# Altium footprint library BMP390.PcbLib: 3 footprints
Each footprint in its own frame and in the unit in brackets; x right, y up, seen from the top. Pads: shape width x height; smd on the part's side, far side on the other; paste and mask are expansions set on the pad; w line width, h text height; cw(c..) or ccw(c..) is an arc to the next point about the centre after c.
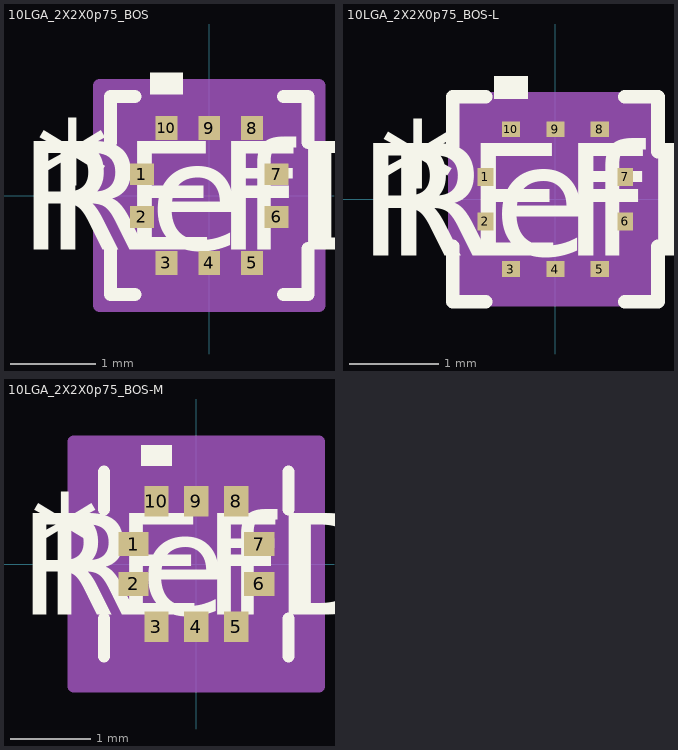
[diagram p0: the footprints below, top view; thin cyan lines are the x and y axes]

## 10LGA_2X2X0p75_BOS [mil]
pads (10):
  rect 11x10 smd paste+0 mask+0: 1(-31,9.84) 2(-31,-9.84) 6(31,-9.84) 7(31,9.84)
  rect 10x11 smd paste+0 mask+0: 3(-19.68,-31) 4(0,-31) 5(19.68,-31) 8(19.68,31) 9(0,31) 10(-19.68,31)
Top Overlay:
  region: -12.19,46.5 -27.18,46.5 -27.18,56.5 -12.19,56.5
  lines w6: -45.5,-24.36 -45.5,-45.5 -34.2,-45.5 ; -45.5,24.36 -45.5,45.5 -34.2,45.5 ; 34.2,-45.5 45.5,-45.5 45.5,-24.36 ; 34.2,45.5 45.5,45.5 45.5,24.36
  text "*" at -80,-15.16 h50
  text "RefDes" at -75,-25 h50
  text "REFDES" at -87.5,-25 h50
Mechanical 13:
  lines w1: -40.5,-9.5 9.5,40.5 ; -40.5,-40.5 40.5,-40.5 40.5,40.5 -40.5,40.5 -40.5,-40.5 ; -40.5,-14.84 -40.5,-4.84 -36.5,-4.84 -36.5,-14.84 -40.5,-14.84 ; -40.5,4.84 -40.5,14.84 -36.5,14.84 -36.5,4.84 -40.5,4.84 ; -24.68,-40.5 -14.69,-40.5 -14.69,-36.5 -24.68,-36.5 -24.68,-40.5 ; -24.68,36.5 -14.69,36.5 -14.69,40.5 -24.68,40.5 -24.68,36.5 ; -5,-40.5 5,-40.5 5,-36.5 -5,-36.5 -5,-40.5 ; -5,36.5 5,36.5 5,40.5 -5,40.5 -5,36.5 ; 14.69,-40.5 24.68,-40.5 24.68,-36.5 14.69,-36.5 14.69,-40.5 ; 14.69,36.5 24.68,36.5 24.68,40.5 14.69,40.5 14.69,36.5 ; 36.5,-14.84 40.5,-14.84 40.5,-4.84 36.5,-4.84 36.5,-14.84 ; 36.5,4.84 40.5,4.84 40.5,14.84 36.5,14.84 36.5,4.84
  text "*" at -7,-15.16 h50
  text "RefDes2" at -87.5,-25 h50
Mechanical 15:
  region: -34.69,-50.5 -50.5,-50.5 -50.5,-24.84 -50.5,24.84 -50.5,50.5 -34.69,50.5 34.69,50.5 50.5,50.5 50.5,24.84 50.5,-24.84 50.5,-50.5 34.69,-50.5
  lines w6: -50.5,-24.84 -50.5,-50.5 -34.69,-50.5 ; -50.5,-24.84 -50.5,-24.84 ; -50.5,-24.84 -50.5,24.84 ; -50.5,24.84 -50.5,24.84 ; -50.5,24.84 -50.5,50.5 -34.69,50.5 ; -34.69,-50.5 34.69,-50.5 ; -34.69,-50.5 -34.69,-50.5 ; -34.69,50.5 -34.69,50.5 ; -34.69,50.5 34.69,50.5 ; 34.69,-50.5 50.5,-50.5 50.5,-24.84 ; 34.69,-50.5 34.69,-50.5 ; 34.69,50.5 34.69,50.5 ; 34.69,50.5 50.5,50.5 50.5,24.84 ; 50.5,-24.84 50.5,24.84 ; 50.5,-24.84 50.5,-24.84 ; 50.5,24.84 50.5,24.84
3D body "10LGA_2X2X0p75_BOS.step": height 32.09, standoff 0, extent -40.51,-40.51 40.51,40.51

## 10LGA_2X2X0p75_BOS-L [mil]
pads (10):
  rect 7x8 smd paste+0 mask+0: 1(-31,9.84) 2(-31,-9.84) 6(31,-9.84) 7(31,9.84)
  rect 8x7 smd paste+0 mask+0: 3(-19.68,-31) 4(0,-31) 5(19.68,-31) 8(19.68,31) 9(0,31) 10(-19.68,31)
Top Overlay:
  region: -12.19,44.5 -27.18,44.5 -27.18,54.5 -12.19,54.5
  lines w6: -45.5,-20.96 -45.5,-45.5 -30.8,-45.5 ; -45.5,20.96 -45.5,45.5 -30.8,45.5 ; 30.8,-45.5 45.5,-45.5 45.5,-20.96 ; 30.8,45.5 45.5,45.5 45.5,20.96
  text "*" at -78,-15.16 h50
  text "RefDes" at -75,-25 h50
  text "REFDES" at -87.5,-25 h50
Mechanical 13:
  lines w1: -40.5,-9.5 9.5,40.5 ; -40.5,-40.5 40.5,-40.5 40.5,40.5 -40.5,40.5 -40.5,-40.5 ; -40.5,-14.84 -40.5,-4.84 -36.5,-4.84 -36.5,-14.84 -40.5,-14.84 ; -40.5,4.84 -40.5,14.84 -36.5,14.84 -36.5,4.84 -40.5,4.84 ; -24.68,-40.5 -14.69,-40.5 -14.69,-36.5 -24.68,-36.5 -24.68,-40.5 ; -24.68,36.5 -14.69,36.5 -14.69,40.5 -24.68,40.5 -24.68,36.5 ; -5,-40.5 5,-40.5 5,-36.5 -5,-36.5 -5,-40.5 ; -5,36.5 5,36.5 5,40.5 -5,40.5 -5,36.5 ; 14.69,-40.5 24.68,-40.5 24.68,-36.5 14.69,-36.5 14.69,-40.5 ; 14.69,36.5 24.68,36.5 24.68,40.5 14.69,40.5 14.69,36.5 ; 36.5,-14.84 40.5,-14.84 40.5,-4.84 36.5,-4.84 36.5,-14.84 ; 36.5,4.84 40.5,4.84 40.5,14.84 36.5,14.84 36.5,4.84
  text "*" at -9,-15.16 h50
  text "RefDes2" at -87.5,-25 h50
Mechanical 15:
  region: -27.68,-44.5 -44.5,-44.5 -44.5,-17.84 -44.5,17.84 -44.5,44.5 -27.68,44.5 27.68,44.5 44.5,44.5 44.5,17.84 44.5,-17.84 44.5,-44.5 27.68,-44.5
  lines w6: -44.5,-17.84 -44.5,-44.5 -27.68,-44.5 ; -44.5,-17.84 -44.5,-17.84 ; -44.5,-17.84 -44.5,17.84 ; -44.5,17.84 -44.5,17.84 ; -44.5,17.84 -44.5,44.5 -27.68,44.5 ; -27.68,-44.5 27.68,-44.5 ; -27.68,-44.5 -27.68,-44.5 ; -27.68,44.5 -27.68,44.5 ; -27.68,44.5 27.68,44.5 ; 27.68,-44.5 44.5,-44.5 44.5,-17.84 ; 27.68,-44.5 27.68,-44.5 ; 27.68,44.5 27.68,44.5 ; 27.68,44.5 44.5,44.5 44.5,17.84 ; 44.5,-17.84 44.5,17.84 ; 44.5,-17.84 44.5,-17.84 ; 44.5,17.84 44.5,17.84
3D body "10LGA_2X2X0p75_BOS.step": height 32.09, standoff 0, extent -40.51,-40.51 40.51,40.51

## 10LGA_2X2X0p75_BOS-M [mil]
pads (10):
  rect 15x12 smd paste+0 mask+0: 1(-31,9.84) 2(-31,-9.84) 6(31,-9.84) 7(31,9.84)
  rect 12x15 smd paste+0 mask+0: 3(-19.68,-31) 4(0,-31) 5(19.68,-31) 8(19.68,31) 9(0,31) 10(-19.68,31)
Top Overlay:
  region: -12.19,48.5 -27.18,48.5 -27.18,58.5 -12.19,58.5
  lines w6: -45.5,-45.5 -45.5,-26.92 ; -45.5,26.92 -45.5,45.5 ; 45.5,-45.5 45.5,-26.92 ; 45.5,26.92 45.5,45.5
  text "*" at -82,-15.16 h50
  text "RefDes" at -75,-25 h50
  text "REFDES" at -87.5,-25 h50
Mechanical 13:
  lines w1: -40.5,-9.5 9.5,40.5 ; -40.5,-40.5 40.5,-40.5 40.5,40.5 -40.5,40.5 -40.5,-40.5 ; -40.5,-14.84 -40.5,-4.84 -36.5,-4.84 -36.5,-14.84 -40.5,-14.84 ; -40.5,4.84 -40.5,14.84 -36.5,14.84 -36.5,4.84 -40.5,4.84 ; -24.68,-40.5 -14.69,-40.5 -14.69,-36.5 -24.68,-36.5 -24.68,-40.5 ; -24.68,36.5 -14.69,36.5 -14.69,40.5 -24.68,40.5 -24.68,36.5 ; -5,-40.5 5,-40.5 5,-36.5 -5,-36.5 -5,-40.5 ; -5,36.5 5,36.5 5,40.5 -5,40.5 -5,36.5 ; 14.69,-40.5 24.68,-40.5 24.68,-36.5 14.69,-36.5 14.69,-40.5 ; 14.69,36.5 24.68,36.5 24.68,40.5 14.69,40.5 14.69,36.5 ; 36.5,-14.84 40.5,-14.84 40.5,-4.84 36.5,-4.84 36.5,-14.84 ; 36.5,4.84 40.5,4.84 40.5,14.84 36.5,14.84 36.5,4.84
  text "*" at -5,-15.16 h50
  text "RefDes2" at -87.5,-25 h50
Mechanical 15:
  region: -45.69,-60.5 -60.5,-60.5 -60.5,-35.84 -60.5,35.84 -60.5,60.5 -45.69,60.5 45.69,60.5 60.5,60.5 60.5,35.84 60.5,-35.84 60.5,-60.5 45.69,-60.5
  lines w6: -60.5,-35.84 -60.5,-60.5 -45.69,-60.5 ; -60.5,-35.84 -60.5,-35.84 ; -60.5,-35.84 -60.5,35.84 ; -60.5,35.84 -60.5,35.84 ; -60.5,35.84 -60.5,60.5 -45.69,60.5 ; -45.69,-60.5 45.69,-60.5 ; -45.69,-60.5 -45.69,-60.5 ; -45.69,60.5 -45.69,60.5 ; -45.69,60.5 45.69,60.5 ; 45.69,-60.5 60.5,-60.5 60.5,-35.84 ; 45.69,-60.5 45.69,-60.5 ; 45.69,60.5 45.69,60.5 ; 45.69,60.5 60.5,60.5 60.5,35.84 ; 60.5,-35.84 60.5,35.84 ; 60.5,-35.84 60.5,-35.84 ; 60.5,35.84 60.5,35.84
3D body "10LGA_2X2X0p75_BOS.step": height 32.09, standoff 0, extent -40.51,-40.51 40.51,40.51